# Altium footprint library FadigasLibPCB.PcbLib: 32 footprints (part 1 of 2)
Each footprint in its own frame and in the unit in brackets; x right, y up, seen from the top. Pads: shape width x height; smd on the part's side, far side on the other; paste and mask are expansions set on the pad; w line width, h text height; cw(c..) or ccw(c..) is an arc to the next point about the centre after c.
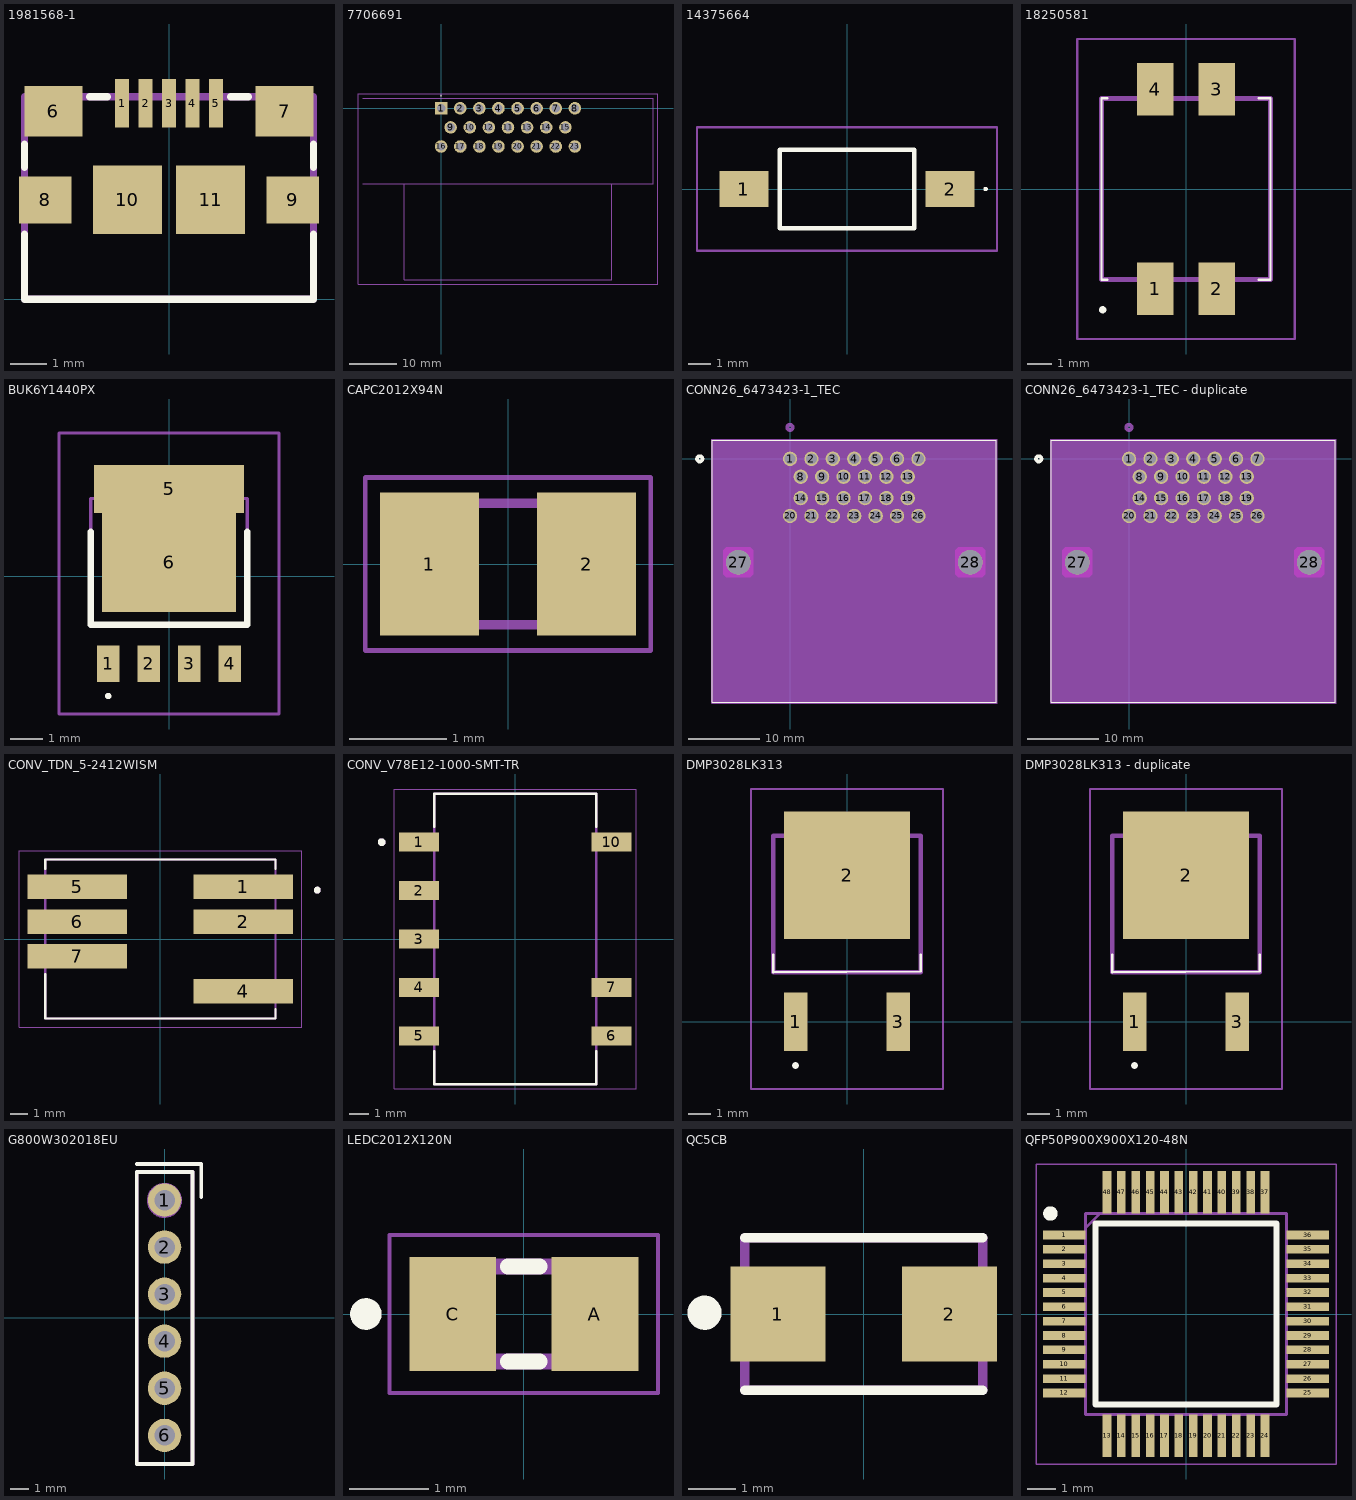
[diagram p0: the footprints below, top view; thin cyan lines are the x and y axes]

## 1981568-1 [mm]
pads (11):
  rect 0.4x1.35 smd: 1(-1.3,5.425) 2(-0.65,5.425) 3(0,5.425) 4(0.65,5.425) 5(1.3,5.425)
  rect 1.6x1.4 smd: 6(-3.2,5.2) 7(3.2,5.2)
  rect 1.45x1.3 smd: 8(-3.425,2.75) 9(3.425,2.75)
  rect 1.9x1.9 smd: 10(-1.15,2.75) 11(1.15,2.75)
Top Overlay:
  lines w0.2: -4,1.8 -4,0 4,0 4,1.8 ; -4,3.65 -4,4.29 ; -2.2,5.6 -1.7,5.6 ; 1.7,5.6 2.2,5.6 ; 4,3.65 4,4.29
Mechanical 13:
  lines w0.2: -4,0 4,0 4,5.6 -4,5.6 -4,0
3D body "1981568-1.stp": height 2.79, standoff -0.29, extent -4.003,0.001 3.997,5.601

## 7706691 [mm]
pads (23):
  rect 2.625x2.625 hole 1.75: 1(0,0)
  round 2.625 hole 1.75: 2(4,0) 3(8,0) 4(12,0) 5(16,0) 6(20,0) 7(24,0) 8(28,0) 9(2,-4) 10(6,-4) 11(14,-4) 12(10,-4) 13(18,-4) 14(22,-4) 15(26,-4) 16(0,-8) 17(4,-8) 18(8,-8) 19(12,-8) 20(16,-8) 21(20,-8) 22(24,-8) 23(28,-8)
Top Overlay:
  lines w0.1: 0,2.6 cw(c0,2.65) 0,2.7 cw(c0,2.65) 0,2.6
Mechanical 13:
  lines w0.1: -16.4,-15.8 44.4,-15.8 44.4,2.05 -16.4,2.05 ; -7.7,-15.8 -7.7,-35.85 35.7,-35.85 35.7,-15.8
Mechanical 15:
  lines w0.1: -17.4,-36.85 -17.4,3.05 45.4,3.05 45.4,-36.85 -17.4,-36.85
3D body "770669-1.stp": height 29.05, standoff -3.05, extent -16.36,-35.8 44.44,2

## 14375664 [mm]
pads (2):
  rect 2.18x1.6 smd: 1(-4.59,0) 2(4.59,0)
Top Overlay:
  lines w0.1: 6.123,0 cw(c6.173,0) 6.223,0 cw(c6.173,0) 6.123,0
  lines w0.2: -3,-1.75 -3,1.75 3,1.75 3,-1.75 -3,-1.75
Mechanical 13:
  lines w0.1: -3,-1.75 -3,1.75 3,1.75 3,-1.75 -3,-1.75
Mechanical 15:
  lines w0.1: -6.68,-2.75 -6.68,2.75 6.68,2.75 6.68,-2.75 -6.68,-2.75
3D body "1437566-4.stp": height 4.4, standoff -0.02, extent -4.762,-1.778 5.207,1.722

## 18250581 [mm]
pads (4):
  rect 1.52x2.16 smd: 1(-1.27,-4.13) 2(1.27,-4.13) 3(1.27,4.13) 4(-1.27,4.13)
Top Overlay:
  lines w0.1: -3.5,-3.75 -3.5,3.75 ; -3.5,-3.75 -3.5,3.75 ; -3.5,-3.75 -3.25,-3.75 -3.5,-3.75 ; -3.5,3.75 -3.25,3.75 -3.5,3.75 ; 3.5,-3.75 3,-3.75 3.5,-3.75 ; 3.5,-3.75 3.5,3.75 ; 3.5,-3.75 3.5,3.75 ; 3.5,3.75 3,3.75 3.5,3.75
  lines w0.2: -3.5,-5 ccw(c-3.45,-5) -3.4,-5 ; -3.5,-5 cw(c-3.45,-5) -3.4,-5 ; -3.5,-5 ccw(c-3.45,-5) -3.4,-5
Mechanical 13:
  lines w0.2: -3.5,-3.75 3.5,-3.75 3.5,3.75 -3.5,3.75 -3.5,-3.75
Mechanical 15:
  lines w0.1: -4.5,-6.21 4.5,-6.21 4.5,6.21 -4.5,6.21 -4.5,-6.21
3D body "1825058-1.stp": height 5.5, standoff 0, extent -3.53,-4.693 3.53,4.693

## BUK6Y1440PX [mm]
pads (6):
  rect 0.7x1.15 smd: 1(-1.905,-2.737) 2(-0.635,-2.737) 3(0.635,-2.737) 4(1.905,-2.737)
  rect 4.7x1.5 smd: 5(0,2.738)
  rect 4.2x3.1 smd: 6(0,0.438)
Top Overlay:
  lines w0.1: -1.905,-3.8 cw(c-1.905,-3.75) -1.905,-3.7 cw(c-1.905,-3.75) -1.905,-3.8
  lines w0.2: -2.45,1.4 -2.45,-1.512 2.45,-1.512 2.45,1.4
Mechanical 13:
  lines w0.1: -2.45,-1.512 -2.45,2.438 2.45,2.438 2.45,-1.512 -2.45,-1.512
Mechanical 15:
  lines w0.1: -3.45,-4.313 -3.45,4.488 3.45,4.488 3.45,-4.313 -3.45,-4.313
3D body "BUK6Y14-40PX.stp": height 1, standoff 0, extent -2.405,-2.97 2.405,3.14

## CAPC2012X94N [mm]
pads (2):
  rect 1.02x1.47 smd: 1(-0.81,0) 2(0.81,0)
Mechanical 13:
  lines w0.1: -1.005,-0.625 1.005,-0.625 1.005,0.625 -1.005,0.625 -1.005,-0.625
Mechanical 15:
  lines w0.05: -1.47,-0.89 1.47,-0.89 1.47,0.89 -1.47,0.89 -1.47,-0.89
3D body "08055A471KAT2A.stp": height 0.94, standoff 0, extent -1.005,-0.625 1.005,0.625

## CONN26_6473423-1_TEC [mil]
pads (28):
  round 79 / inner round 60 / far side round 79 hole 59 paste-39.5 mask-39.5: 1(0,0) 2(118.11,0) 3(236.22,0) 4(354.33,0) 5(472.44,0) 6(590.55,0) 7(708.66,0) 8(59.06,-98.43) 9(177.17,-98.43) 10(295.28,-98.43) 11(413.39,-98.43) 12(531.5,-98.43) 13(649.61,-98.43) 14(59.06,-216.54) 15(177.17,-216.54) 16(295.28,-216.54) 17(413.39,-216.54) 18(531.5,-216.54) 19(649.61,-216.54) 20(0,-314.96) 21(118.11,-314.96) 22(236.22,-314.96) 23(354.33,-314.96) 24(472.44,-314.96) 25(590.55,-314.96) 26(708.66,-314.96)
  round 134 / inner round 60 / far side round 134 hole 134 unplated paste-67 mask-67: 27(-285.43,-570.87) 28(994.09,-570.87)
Top Overlay:
  circle w20: c-498.17,0 r15
  lines w6: -428.17,-1343.58 1136.83,-1343.58 1136.83,103.43 -428.17,103.43 -428.17,-1343.58
Bottom Overlay:
  circle w20: c-498.17,0 r15
Keep-Out Layer:
  region: -352.43,-652.87 -367.43,-637.87 -367.43,-503.87 -352.43,-488.87 -218.43,-488.87 -203.43,-503.87 -203.43,-637.87 -218.43,-652.87
  region: 1061.09,-652.87 1076.09,-637.87 1076.09,-503.87 1061.09,-488.87 927.09,-488.87 912.09,-503.87 912.09,-637.87 927.09,-652.87
Mechanical 13:
  circle w20: c0,173.43 r15
  lines w1: -423.17,-1338.58 1131.83,-1338.58 1131.83,98.43 -423.17,98.43 -423.17,-1338.58
Mechanical 15:
  region: 1141.83,108.43 -433.17,108.43 -433.17,-1348.58 1141.83,-1348.58
  lines w6: -433.17,-1348.58 -433.17,108.43 1141.83,108.43 1141.83,-1348.58 -433.17,-1348.58

## CONN26_6473423-1_TEC - duplicate [mil]
pads (28):
  round 79 / inner round 60 / far side round 79 hole 59 paste-39.5 mask-39.5: 1(0,0) 2(118.11,0) 3(236.22,0) 4(354.33,0) 5(472.44,0) 6(590.55,0) 7(708.66,0) 8(59.06,-98.43) 9(177.17,-98.43) 10(295.28,-98.43) 11(413.39,-98.43) 12(531.5,-98.43) 13(649.61,-98.43) 14(59.06,-216.54) 15(177.17,-216.54) 16(295.28,-216.54) 17(413.39,-216.54) 18(531.5,-216.54) 19(649.61,-216.54) 20(0,-314.96) 21(118.11,-314.96) 22(236.22,-314.96) 23(354.33,-314.96) 24(472.44,-314.96) 25(590.55,-314.96) 26(708.66,-314.96)
  round 134 / inner round 60 / far side round 134 hole 134 unplated paste-67 mask-67: 27(-285.43,-570.87) 28(994.09,-570.87)
Top Overlay:
  circle w20: c-498.17,0 r15
  lines w6: -428.17,-1343.58 -428.17,103.43 1136.83,103.43 1136.83,-1343.58 -428.17,-1343.58
Bottom Overlay:
  circle w20: c-498.17,0 r15
Keep-Out Layer:
  region: 1061.09,-652.87 1076.09,-637.87 1076.09,-503.87 1061.09,-488.87 927.09,-488.87 912.09,-503.87 912.09,-637.87 927.09,-652.87
  region: -352.43,-652.87 -367.43,-637.87 -367.43,-503.87 -352.43,-488.87 -218.43,-488.87 -203.43,-503.87 -203.43,-637.87 -218.43,-652.87
Mechanical 13:
  circle w20: c0,173.43 r15
  lines w1: -423.17,-1338.58 -423.17,98.43 1131.83,98.43 1131.83,-1338.58 -423.17,-1338.58
Mechanical 15:
  region: 1141.83,108.43 -433.17,108.43 -433.17,-1348.58 1141.83,-1348.58
  lines w6: -433.17,-1348.58 1141.83,-1348.58 1141.83,108.43 -433.17,108.43 -433.17,-1348.58

## CONV_TDN_5-2412WISM [mm]
pads (6):
  rect 5.7x1.4 smd: 1(4.75,3) 2(4.75,1) 4(4.75,-3) 5(-4.75,3) 6(-4.75,1) 7(-4.75,-1)
Top Overlay:
  circle w0.2: c9,2.8 r0.1
  lines w0.127: -6.6,-2.02 -6.6,-4.55 6.6,-4.55 6.6,-4.02 ; -6.6,4.02 -6.6,4.55 6.6,4.55 6.6,4.02
Mechanical 13:
  circle w0.2: c9,2.8 r0.1
  lines w0.127: -6.6,-4.55 -6.6,4.55 6.6,4.55 6.6,-4.55 -6.6,-4.55
Mechanical 15:
  lines w0.05: -8.1,-5.05 -8.1,5.05 8.1,5.05 8.1,-5.05 -8.1,-5.05

## CONV_V78E12-1000-SMT-TR [mm]
pads (8):
  rect 2.1x1 smd: 1(-5.05,5.08) 2(-5.05,2.54) 3(-5.05,0) 4(-5.05,-2.54) 5(-5.05,-5.08) 6(5.05,-5.08) 7(5.05,-2.54) 10(5.05,5.08)
Top Overlay:
  circle w0.2: c-7,5.08 r0.1
  lines w0.127: -4.25,-5.9 -4.25,-7.62 4.25,-7.62 4.25,-5.9 ; -4.25,5.9 -4.25,7.62 4.25,7.62 4.25,5.9
Mechanical 13:
  circle w0.2: c-7,5.08 r0.1
  lines w0.127: -4.25,-7.62 -4.25,7.62 4.25,7.62 4.25,-7.62 -4.25,-7.62
Mechanical 15:
  lines w0.05: -6.35,-7.87 6.35,-7.87 6.35,7.87 -6.35,7.87 -6.35,-7.87
3D body "V78E12-1000-SMT-TR--3DModel-STEP-387902.STEP": height 8.3, standoff 0.05, extent -5.664,-7.567 5.736,7.673

## DMP3028LK313 [mm]
pads (3):
  rect 1.06x2.6 smd: 1(-2.286,0) 3(2.286,0)
  rect 5.632x5.7 smd: 2(0,6.55)
Top Overlay:
  lines w0.1: -3.29,3 -3.29,2.22 3.29,2.25 3.29,3
  lines w0.2: -2.3,-2 ccw(c-2.3,-1.95) -2.3,-1.9 ; -2.3,-2 cw(c-2.3,-1.95) -2.3,-1.9 ; -2.3,-2 ccw(c-2.3,-1.95) -2.3,-1.9
Mechanical 13:
  lines w0.2: -3.29,2.22 -3.29,8.32 3.29,8.32 3.29,2.22 -3.29,2.22
Mechanical 15:
  lines w0.1: -4.29,-3 -4.29,10.4 4.29,10.4 4.29,-3 -4.29,-3
3D body "DMP3028LK3-13.stp": height 2.49, standoff 0, extent -3.29,-1.194 3.29,8.837

## DMP3028LK313 - duplicate [mm]
pads (3):
  rect 1.06x2.6 smd: 1(-2.286,0) 3(2.286,0)
  rect 5.632x5.7 smd: 2(0,6.55)
Top Overlay:
  lines w0.1: -3.29,3 -3.29,2.22 3.29,2.25 3.29,3
  lines w0.2: -2.3,-2 ccw(c-2.3,-1.95) -2.3,-1.9 ; -2.3,-2 cw(c-2.3,-1.95) -2.3,-1.9 ; -2.3,-2 ccw(c-2.3,-1.95) -2.3,-1.9
Mechanical 13:
  lines w0.2: -3.29,2.22 3.29,2.22 3.29,8.32 -3.29,8.32 -3.29,2.22
Mechanical 15:
  lines w0.1: -4.29,-3 4.29,-3 4.29,10.4 -4.29,10.4 -4.29,-3
3D body "DMP3028LK3-13.stp": height 2.49, standoff 0, extent -3.29,-1.194 3.29,8.837

## G800W302018EU [mm]
pads (6):
  round 1.8 hole 1.1 mask+0.07: 1(0,6.35) 2(0,3.81) 3(0,1.27) 4(0,-1.27) 5(0,-3.81) 6(0,-6.35)
Top Overlay:
  lines w0.2: -1.5,8.3 1.972,8.3 1.972,6.5 ; -1.5,-7.9 -1.5,7.863 1.5,7.863 1.5,-7.9 -1.5,-7.9
Mechanical 13:
  circle w0.25: c-0.012,6.336 r0.823
  lines w0.2: -1.5,-7.9 -1.5,7.864 1.5,7.864 1.5,-7.9 -1.5,-7.9
  text "'.Designator'" at -5.84,-0.925 h1
3D body "g800w302xxxeu.stp": height 8.61, standoff -2.99, extent -1.25,-7.62 1.25,7.62

## LEDC2012X120N [mm]
pads (2):
  rect 1.1x1.45 smd: A(0.9,0) C(-0.9,0)
Top Overlay:
  circle w0.2: c-2,0 r0.1
  lines w0.2: -0.2,-0.6 0.2,-0.6 ; -0.2,0.6 0.2,0.6
Mechanical 13:
  region: 1,-0.6 0.5,-0.6 0.5,0.6 1,0.6
  region: -0.5,-0.6 -1,-0.6 -1,0.6 -0.5,0.6
  lines w0.2: -1,-0.6 -1,0.6 1,0.6 1,-0.6 -1,-0.6
Mechanical 15:
  lines w0.05: -1.7,-1 -1.7,1 1.7,1 1.7,-1 -1.7,-1
3D body "step_temp.STEP": height 0.9, standoff 0, extent -1,-0.65 1,0.65

## QC5CB [mm]
pads (2):
  rect 2x2 smd: 1(-1.8,0) 2(1.8,0)
Top Overlay:
  circle w0.4: c-3.341,0.027 r0.159
  lines w0.2: -2.5,-1.6 2.5,-1.6 ; -2.5,1.6 2.5,1.6
Mechanical 13:
  lines w0.2: -2.5,-1.6 -2.5,1.6 2.5,1.6 2.5,-1.6 -2.5,-1.6

## QFP50P900X900X120-48N [mm]
pads (48):
  rect 1.475x0.3 smd: 1(-4.238,2.75) 2(-4.238,2.25) 3(-4.238,1.75) 4(-4.238,1.25) 5(-4.238,0.75) 6(-4.238,0.25) 7(-4.238,-0.25) 8(-4.238,-0.75) 9(-4.238,-1.25) 10(-4.238,-1.75) 11(-4.238,-2.25) 12(-4.238,-2.75) 25(4.238,-2.75) 26(4.238,-2.25) 27(4.238,-1.75) 28(4.238,-1.25) 29(4.238,-0.75) 30(4.238,-0.25) 31(4.238,0.25) 32(4.238,0.75) 33(4.238,1.25) 34(4.238,1.75) 35(4.238,2.25) 36(4.238,2.75)
  rect 0.3x1.475 smd: 13(-2.75,-4.238) 14(-2.25,-4.238) 15(-1.75,-4.238) 16(-1.25,-4.238) 17(-0.75,-4.238) 18(-0.25,-4.238) 19(0.25,-4.238) 20(0.75,-4.238) 21(1.25,-4.238) 22(1.75,-4.238) 23(2.25,-4.238) 24(2.75,-4.238) 37(2.75,4.238) 38(2.25,4.238) 39(1.75,4.238) 40(1.25,4.238) 41(0.75,4.238) 42(0.25,4.238) 43(-0.25,4.238) 44(-0.75,4.238) 45(-1.25,4.238) 46(-1.75,4.238) 47(-2.25,4.238) 48(-2.75,4.238)
Top Overlay:
  circle w0.25: c-4.725,3.5 r0.125
  lines w0.2: -3.15,-3.15 -3.15,3.15 3.15,3.15 3.15,-3.15 -3.15,-3.15
Mechanical 13:
  lines w0.1: -3.5,3 -3,3.5 ; -3.5,-3.5 -3.5,3.5 3.5,3.5 3.5,-3.5 -3.5,-3.5
Mechanical 15:
  lines w0.05: -5.225,-5.225 -5.225,5.225 5.225,5.225 5.225,-5.225 -5.225,-5.225
3D body "ADG732BSUZ.stp": height 1.2, standoff 0, extent -4.5,-4.5 4.5,4.5